# EAGLE library part BQ28400 (library U-TI-BQ28400-Li-battery-monitor)
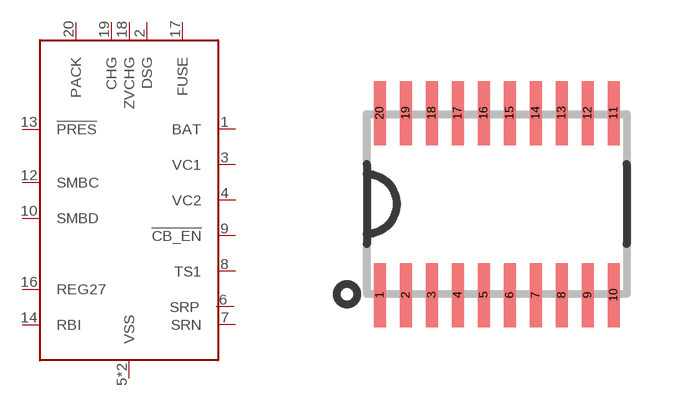
[diagram p0: symbol with the pads of TSSOP-20; footprint TSSOP-20]

Designator prefix U

## BQ28400  [TSSOP-20]
1  BAT  pwr
2  DSG  out
3  VC1  in
4  VC2  in
5  VSS  pwr
6  SRP  in
7  SRN  in
8  TS1  in
9  !CB_EN  out
10  SMBD
12  SMBC
13  !PRES  in
14  RBI  pwr
15  VSS  pwr
16  REG27  pwr
17  FUSE  out
18  ZVCHG  out
19  CHG  out
20  PACK  pwr

## Footprint TSSOP-20 (pad centres in mm)
smd 0.3 x 1.6: 1 -2.925,-2.275; 2 -2.275,-2.275; 3 -1.625,-2.275; 4 -0.975,-2.275; 5 -0.325,-2.275; 6 0.325,-2.275; 7 0.975,-2.275; 8 1.625,-2.275; 9 2.275,-2.275; 10 2.925,-2.275; 11 2.925,2.275; 12 2.275,2.275; 13 1.625,2.275; 14 0.975,2.275; 15 0.325,2.275; 16 -0.325,2.275; 17 -0.975,2.275; 18 -1.625,2.275; 19 -2.275,2.275; 20 -2.925,2.275